# Altium footprint library 19-237AR6GHBHC-B012T.PcbLib: 1 footprints
Each footprint in its own frame and in the unit in brackets; x right, y up, seen from the top. Pads: shape width x height; smd on the part's side, far side on the other; paste and mask are expansions set on the pad; w line width, h text height; cw(c..) or ccw(c..) is an arc to the next point about the centre after c.
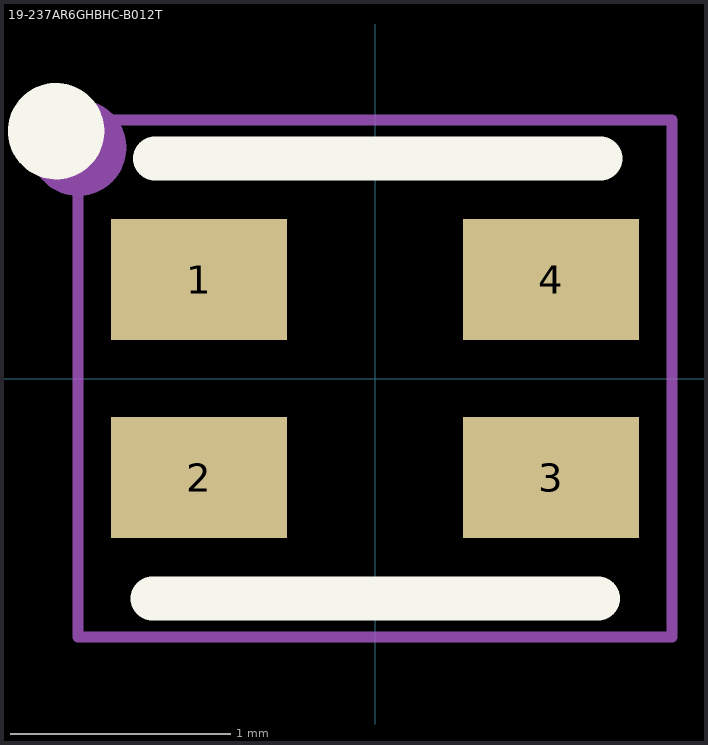
[diagram p0: the footprint, top view; thin cyan lines are the x and y axes]

## 19-237AR6GHBHC-B012T [mm]
height 0.9
pads (4):
  rect 0.8x0.55 smd paste+0 mask+0.05: 1(-0.8,0.45) 2(-0.8,-0.45) 3(0.8,-0.45) 4(0.8,0.45)
Top Overlay:
  circle w0.254: c-1.45,1.125 r0.092
  lines w0.2: -1.012,-1 1.012,-1 ; -1,1 1.025,1
Top Assembly:
  circle w0.254: c-1.35,1.05 r0.092
  lines w0.05: -1.35,-1.175 1.35,-1.175 1.35,1.175 -1.35,1.175 -1.35,-1.175
  text "'.Designator'" at 0,-0.375 h0.8
3D body "19-237R6GHBHC-C012T.step": height 0.46, standoff 0, extent -0.876,-0.851 0.876,0.851